# Altium integrated library Microchip Power Mgt MOSFET Driver.IntLib: 464 symbols (part 10 of 12)
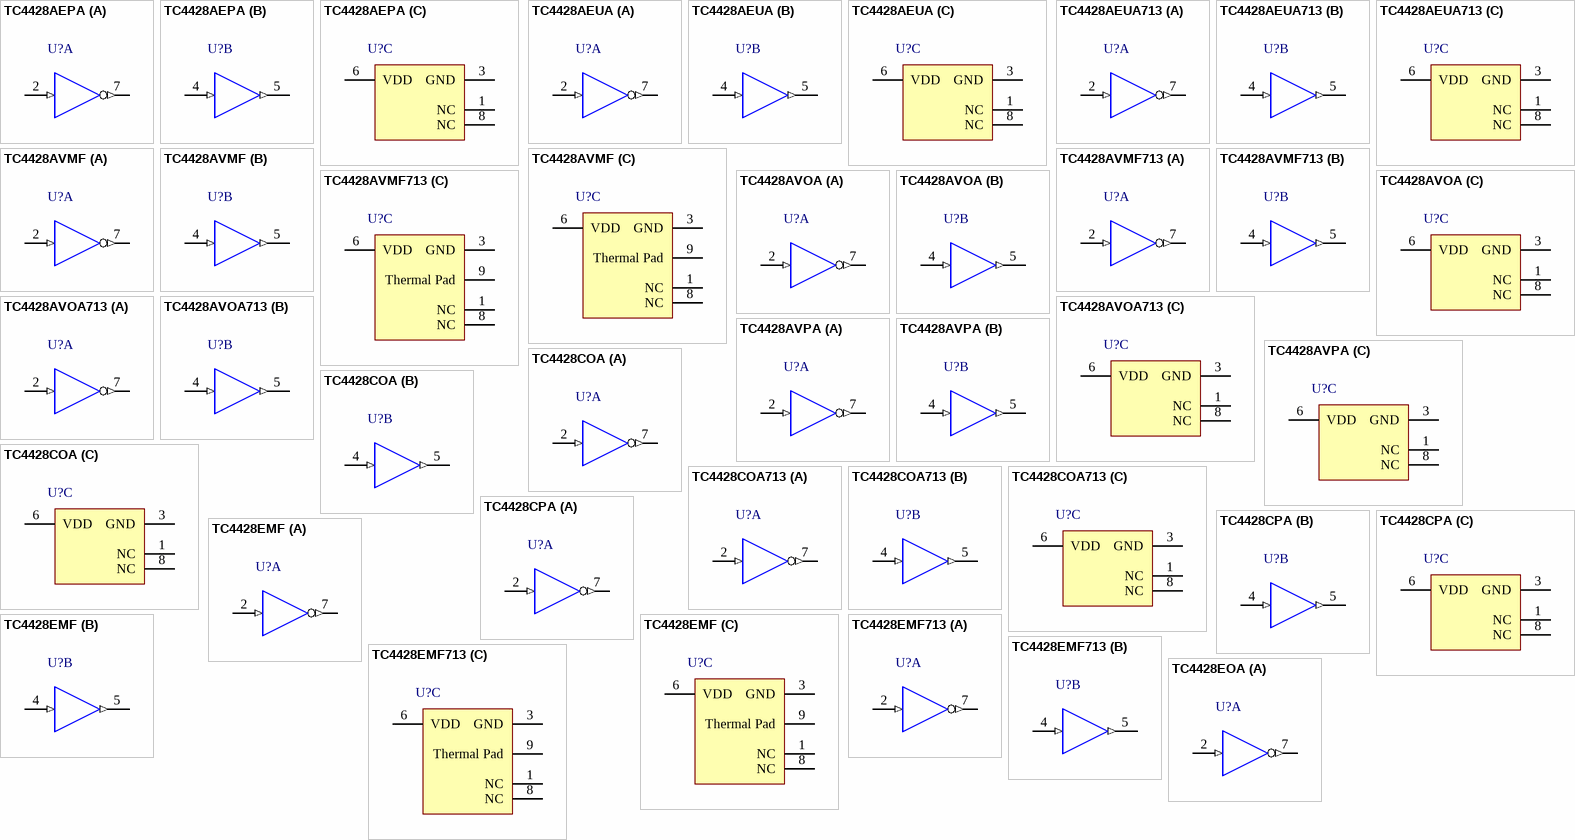
[diagram p34: symbols TC4428AEPA to TC4428EOA]

## TC4428AEUA713
designator U?
1.5A Dual High-Speed Power MOSFET Driver, Complementary, Industrial Temperature, Tape and Reel; Published: 29-Jan-2009; DatasheetVersion: revF, Jan-2006; PackageVersion: revBB, Aug-2009; PackageReference: MSOP-UA8; Publisher: Altium Limited; PackageDescription: 8-Lead Plastic Micro Small Outline Package (UA) [MSOP]; Supplier 1: Digi-Key; Supplier Part Number 1: TC4428AEUA713-ND; Code_JEDEC: MO-187-AA; ComponentLink1Description: Datasheet; ComponentLink1URL: http://ww1.microchip.com/downloads/en/DeviceDoc/21423F.pdf; ComponentLink2Description: Packaging Specification; ComponentLink2URL: http://www.microchip.com/stellent/groups/techpub_sg/documents/packagingspec/en012702.pdf; ComponentLink3Description: Microchip.com Home; ComponentLink3URL: http://www.microchip.com/
footprint MSOP-UA8_N (TSOP, 8-Leads, Body 3x3mm, Pitch 0.65mm, IPC Medium Density)
footprint MSOP-UA8_L (TSOP, 8-Leads, Body 3x3mm, Pitch 0.65mm, IPC High Density)
footprint MSOP-UA8_M (TSOP, 8-Leads, Body 3x3mm, Pitch 0.65mm, IPC Low Density)
part A pins: 2 INA (in), 7 ~{OUTA} (out)
part B pins: 4 INB (in), 5 OUTB (out)
part C pins: 1 NC, 3 GND (power), 6 VDD (power), 8 NC

## TC4428AVMF
designator U?
1.5A Dual High-Speed Power MOSFET Driver, Complementary, Extended Temperature; Published: 29-Jan-2009; DatasheetVersion: revF, Jan-2006; PackageVersion: revBB, Aug-2009; PackageReference: DFN-MF8; Publisher: Altium Limited; PackageDescription: 8-Lead Plastic Dual Flat, No Lead Package (MF) - 3x3x0.9mm Body [DFN]; Supplier 1: Digi-Key; Supplier Part Number 1: TC4428AVMF-ND; ComponentLink1Description: Datasheet; ComponentLink1URL: http://ww1.microchip.com/downloads/en/DeviceDoc/21423F.pdf; ComponentLink2Description: Packaging Specification; ComponentLink2URL: http://www.microchip.com/stellent/groups/techpub_sg/documents/packagingspec/en012702.pdf; ComponentLink3Description: Microchip.com Home; ComponentLink3URL: http://www.microchip.com/
footprint DFN-MF8 (SON, 8-Leads, Body 3x3mm, Pitch 0.65mm, Microchip Recommended)
part A pins: 2 INA (in), 7 ~{OUTA} (out)
part B pins: 4 INB (in), 5 OUTB (out)
part C pins: 1 NC, 3 GND (power), 6 VDD (power), 8 NC, 9 Thermal Pad

## TC4428AVMF713
designator U?
1.5A Dual High-Speed Power MOSFET Driver, Complementary, Extended Temperature, Tape and Reel; Published: 29-Jan-2009; DatasheetVersion: revF, Jan-2006; PackageVersion: revBB, Aug-2009; PackageReference: DFN-MF8; Publisher: Altium Limited; PackageDescription: 8-Lead Plastic Dual Flat, No Lead Package (MF) - 3x3x0.9mm Body [DFN]; Supplier 1: Digi-Key; Supplier Part Number 1: TC4428AVMF713-ND; ComponentLink1Description: Datasheet; ComponentLink1URL: http://ww1.microchip.com/downloads/en/DeviceDoc/21423F.pdf; ComponentLink2Description: Packaging Specification; ComponentLink2URL: http://www.microchip.com/stellent/groups/techpub_sg/documents/packagingspec/en012702.pdf; ComponentLink3Description: Microchip.com Home; ComponentLink3URL: http://www.microchip.com/
footprint DFN-MF8 (SON, 8-Leads, Body 3x3mm, Pitch 0.65mm, Microchip Recommended)
part A pins: 2 INA (in), 7 ~{OUTA} (out)
part B pins: 4 INB (in), 5 OUTB (out)
part C pins: 1 NC, 3 GND (power), 6 VDD (power), 8 NC, 9 Thermal Pad

## TC4428AVOA
designator U?
1.5A Dual High-Speed Power MOSFET Driver, Complementary, Extended Temperature; Published: 29-Jan-2009; DatasheetVersion: revF, Jan-2006; PackageVersion: revBB, Aug-2009; PackageReference: SOIC-OA8; Publisher: Altium Limited; PackageDescription: 8-Lead Plastic Small Outline (OA) - Narrow, 3.90mm Body [SOIC]; Supplier 1: Digi-Key; Supplier Part Number 1: TC4428AVOA-ND; Code_IPC: SOIC127P600-8; ComponentLink1Description: Datasheet; ComponentLink1URL: http://ww1.microchip.com/downloads/en/DeviceDoc/21423F.pdf; ComponentLink2Description: Packaging Specification; ComponentLink2URL: http://www.microchip.com/stellent/groups/techpub_sg/documents/packagingspec/en012702.pdf; ComponentLink3Description: Microchip.com Home; ComponentLink3URL: http://www.microchip.com/
footprint SOIC-OA8_N (SOIC, 8-Leads, Body 4.9x3.9mm, Pitch 1.27mm, IPC Medium Density)
footprint SOIC-OA8_L (SOIC, 8-Leads, Body 4.9x3.9mm, Pitch 1.27mm, IPC High Density)
footprint SOIC-OA8_M (SOIC, 8-Leads, Body 4.9x3.9mm, Pitch 1.27mm, IPC Low Density)
part A pins: 2 INA (in), 7 ~{OUTA} (out)
part B pins: 4 INB (in), 5 OUTB (out)
part C pins: 1 NC, 3 GND (power), 6 VDD (power), 8 NC

## TC4428AVOA713
designator U?
1.5A Dual High-Speed Power MOSFET Driver, Complementary, Extended Temperature, Tape and Reel; Published: 29-Jan-2009; DatasheetVersion: revF, Jan-2006; PackageVersion: revBB, Aug-2009; PackageReference: SOIC-OA8; Publisher: Altium Limited; PackageDescription: 8-Lead Plastic Small Outline (OA) - Narrow, 3.90mm Body [SOIC]; Supplier 1: Digi-Key; Supplier Part Number 1: TC4428AVOA713-ND; Code_IPC: SOIC127P600-8; ComponentLink1Description: Datasheet; ComponentLink1URL: http://ww1.microchip.com/downloads/en/DeviceDoc/21423F.pdf; ComponentLink2Description: Packaging Specification; ComponentLink2URL: http://www.microchip.com/stellent/groups/techpub_sg/documents/packagingspec/en012702.pdf; ComponentLink3Description: Microchip.com Home; ComponentLink3URL: http://www.microchip.com/
footprint SOIC-OA8_N (SOIC, 8-Leads, Body 4.9x3.9mm, Pitch 1.27mm, IPC Medium Density)
footprint SOIC-OA8_L (SOIC, 8-Leads, Body 4.9x3.9mm, Pitch 1.27mm, IPC High Density)
footprint SOIC-OA8_M (SOIC, 8-Leads, Body 4.9x3.9mm, Pitch 1.27mm, IPC Low Density)
part A pins: 2 INA (in), 7 ~{OUTA} (out)
part B pins: 4 INB (in), 5 OUTB (out)
part C pins: 1 NC, 3 GND (power), 6 VDD (power), 8 NC

## TC4428AVPA
designator U?
1.5A Dual High-Speed Power MOSFET Driver, Complementary, Extended Temperature; Published: 29-Jan-2009; DatasheetVersion: revF, Jan-2006; PackageVersion: revBB, Aug-2009; PackageReference: PDIP300-PA8; Publisher: Altium Limited; PackageDescription: 8-Lead Plastic Dual In-Line (PA) - 300 mil Body [PDIP]; Supplier 1: Digi-Key; Supplier Part Number 1: TC4428AVPA-ND; Code_JEDEC: MS-001-BA; ComponentLink1Description: Datasheet; ComponentLink1URL: http://ww1.microchip.com/downloads/en/DeviceDoc/21423F.pdf; ComponentLink2Description: Packaging Specification; ComponentLink2URL: http://www.microchip.com/stellent/groups/techpub_sg/documents/packagingspec/en012702.pdf; ComponentLink3Description: Microchip.com Home; ComponentLink3URL: http://www.microchip.com/
footprint PDIP300-PA8 (DIP, 8-Leads, Row Spacing 7.62mm, Pitch 2.54mm, Body 9.5x6.6mm)
part A pins: 2 INA (in), 7 ~{OUTA} (out)
part B pins: 4 INB (in), 5 OUTB (out)
part C pins: 1 NC, 3 GND (power), 6 VDD (power), 8 NC

## TC4428COA
designator U?
1.5A Dual High-Speed Power MOSFET Driver, Complementary, Commercial Temperature; Published: 29-Jan-2009; DatasheetVersion: revD, Jan-2006; PackageVersion: revBB, Aug-2009; PackageReference: SOIC-OA8; Publisher: Altium Limited; PackageDescription: 8-Lead Plastic Small Outline (OA) - Narrow, 3.90mm Body [SOIC]; Supplier 1: Digi-Key; Supplier Part Number 1: TC4428COA-ND; Supplier 2: Farnell; Supplier Part Number 2: 1215123; Supplier 3: Farnell; Supplier Part Number 3: 1467706; Code_IPC: SOIC127P600-8; ComponentLink1Description: Datasheet; ComponentLink1URL: http://ww1.microchip.com/downloads/en/DeviceDoc/21422D.pdf; ComponentLink2Description: Packaging Specification; ComponentLink2URL: http://www.microchip.com/stellent/groups/techpub_sg/documents/packagingspec/en012702.pdf; ComponentLink3Description: Microchip.com Home; ComponentLink3URL: http://www.microchip.com/
footprint SOIC-OA8_N (SOIC, 8-Leads, Body 4.9x3.9mm, Pitch 1.27mm, IPC Medium Density)
footprint SOIC-OA8_L (SOIC, 8-Leads, Body 4.9x3.9mm, Pitch 1.27mm, IPC High Density)
footprint SOIC-OA8_M (SOIC, 8-Leads, Body 4.9x3.9mm, Pitch 1.27mm, IPC Low Density)
part A pins: 2 INA (in), 7 ~{OUTA} (out)
part B pins: 4 INB (in), 5 OUTB (out)
part C pins: 1 NC, 3 GND (power), 6 VDD (power), 8 NC

## TC4428COA713
designator U?
1.5A Dual High-Speed Power MOSFET Driver, Complementary, Commercial Temperature, Tape and Reel; Published: 29-Jan-2009; DatasheetVersion: revD, Jan-2006; PackageVersion: revBB, Aug-2009; PackageReference: SOIC-OA8; Publisher: Altium Limited; PackageDescription: 8-Lead Plastic Small Outline (OA) - Narrow, 3.90mm Body [SOIC]; Supplier 1: Digi-Key; Supplier Part Number 1: TC4428COA713TR-ND; Code_IPC: SOIC127P600-8; ComponentLink1Description: Datasheet; ComponentLink1URL: http://ww1.microchip.com/downloads/en/DeviceDoc/21422D.pdf; ComponentLink2Description: Packaging Specification; ComponentLink2URL: http://www.microchip.com/stellent/groups/techpub_sg/documents/packagingspec/en012702.pdf; ComponentLink3Description: Microchip.com Home; ComponentLink3URL: http://www.microchip.com/
footprint SOIC-OA8_N (SOIC, 8-Leads, Body 4.9x3.9mm, Pitch 1.27mm, IPC Medium Density)
footprint SOIC-OA8_L (SOIC, 8-Leads, Body 4.9x3.9mm, Pitch 1.27mm, IPC High Density)
footprint SOIC-OA8_M (SOIC, 8-Leads, Body 4.9x3.9mm, Pitch 1.27mm, IPC Low Density)
part A pins: 2 INA (in), 7 ~{OUTA} (out)
part B pins: 4 INB (in), 5 OUTB (out)
part C pins: 1 NC, 3 GND (power), 6 VDD (power), 8 NC

## TC4428CPA
designator U?
1.5A Dual High-Speed Power MOSFET Driver, Complementary, Commercial Temperature; Published: 29-Jan-2009; DatasheetVersion: revD, Jan-2006; PackageVersion: revBB, Aug-2009; PackageReference: PDIP300-PA8; Publisher: Altium Limited; PackageDescription: 8-Lead Plastic Dual In-Line (PA) - 300 mil Body [PDIP]; Supplier 1: Digi-Key; Supplier Part Number 1: TC4428CPA-ND; Code_JEDEC: MS-001-BA; ComponentLink1Description: Datasheet; ComponentLink1URL: http://ww1.microchip.com/downloads/en/DeviceDoc/21422D.pdf; ComponentLink2Description: Packaging Specification; ComponentLink2URL: http://www.microchip.com/stellent/groups/techpub_sg/documents/packagingspec/en012702.pdf; ComponentLink3Description: Microchip.com Home; ComponentLink3URL: http://www.microchip.com/
footprint PDIP300-PA8 (DIP, 8-Leads, Row Spacing 7.62mm, Pitch 2.54mm, Body 9.5x6.6mm)
part A pins: 2 INA (in), 7 ~{OUTA} (out)
part B pins: 4 INB (in), 5 OUTB (out)
part C pins: 1 NC, 3 GND (power), 6 VDD (power), 8 NC

## TC4428EMF
designator U?
1.5A Dual High-Speed Power MOSFET Driver, Complementary, Industrial Temperature; Published: 29-Jan-2009; DatasheetVersion: revD, Jan-2006; PackageVersion: revBB, Aug-2009; PackageReference: DFN-MF8; Publisher: Altium Limited; PackageDescription: 8-Lead Plastic Dual Flat, No Lead Package (MF) - 3x3x0.9mm Body [DFN]; Supplier 1: Digi-Key; Supplier Part Number 1: TC4428EMF-ND; ComponentLink1Description: Datasheet; ComponentLink1URL: http://ww1.microchip.com/downloads/en/DeviceDoc/21422D.pdf; ComponentLink2Description: Packaging Specification; ComponentLink2URL: http://www.microchip.com/stellent/groups/techpub_sg/documents/packagingspec/en012702.pdf; ComponentLink3Description: Microchip.com Home; ComponentLink3URL: http://www.microchip.com/
footprint DFN-MF8 (SON, 8-Leads, Body 3x3mm, Pitch 0.65mm, Microchip Recommended)
part A pins: 2 INA (in), 7 ~{OUTA} (out)
part B pins: 4 INB (in), 5 OUTB (out)
part C pins: 1 NC, 3 GND (power), 6 VDD (power), 8 NC, 9 Thermal Pad

## TC4428EMF713
designator U?
1.5A Dual High-Speed Power MOSFET Driver, Complementary, Industrial Temperature, Tape and Reel; Published: 29-Jan-2009; DatasheetVersion: revD, Jan-2006; PackageVersion: revBB, Aug-2009; PackageReference: DFN-MF8; Publisher: Altium Limited; PackageDescription: 8-Lead Plastic Dual Flat, No Lead Package (MF) - 3x3x0.9mm Body [DFN]; Supplier 1: Digi-Key; Supplier Part Number 1: TC4428EMF713-ND; ComponentLink1Description: Datasheet; ComponentLink1URL: http://ww1.microchip.com/downloads/en/DeviceDoc/21422D.pdf; ComponentLink2Description: Packaging Specification; ComponentLink2URL: http://www.microchip.com/stellent/groups/techpub_sg/documents/packagingspec/en012702.pdf; ComponentLink3Description: Microchip.com Home; ComponentLink3URL: http://www.microchip.com/
footprint DFN-MF8 (SON, 8-Leads, Body 3x3mm, Pitch 0.65mm, Microchip Recommended)
part A pins: 2 INA (in), 7 ~{OUTA} (out)
part B pins: 4 INB (in), 5 OUTB (out)
part C pins: 1 NC, 3 GND (power), 6 VDD (power), 8 NC, 9 Thermal Pad

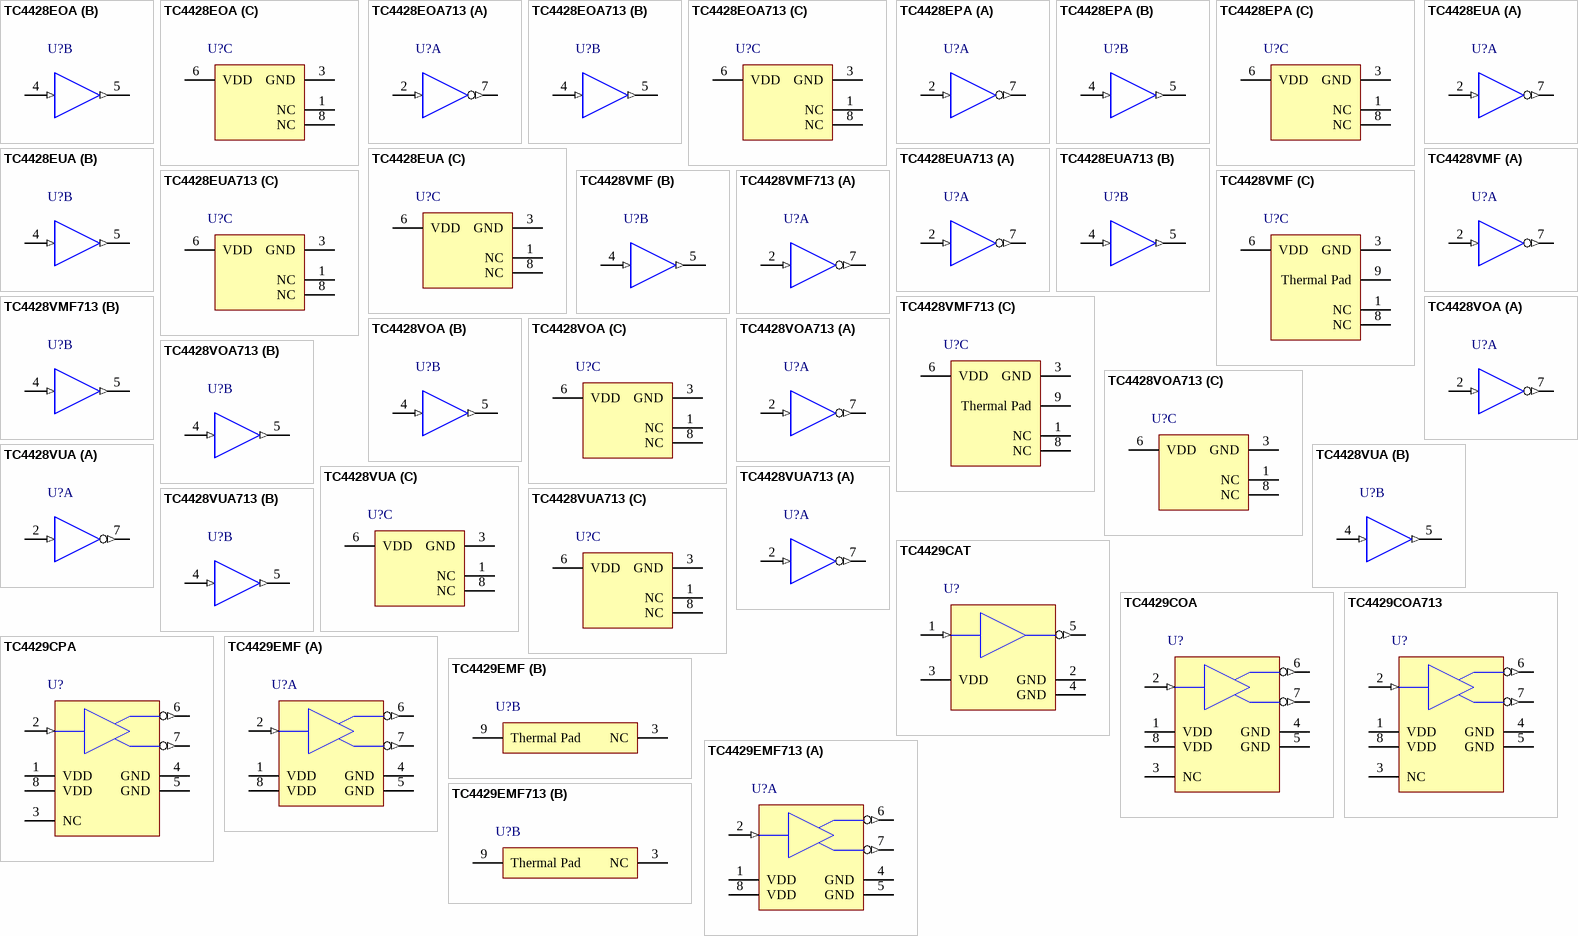
[diagram p21: symbols TC4428EOA to TC4429EMF713]

## TC4428EOA
designator U?
1.5A Dual High-Speed Power MOSFET Driver, Complementary, Industrial Temperature; Published: 29-Jan-2009; DatasheetVersion: revD, Jan-2006; PackageVersion: revBB, Aug-2009; PackageReference: SOIC-OA8; Publisher: Altium Limited; PackageDescription: 8-Lead Plastic Small Outline (OA) - Narrow, 3.90mm Body [SOIC]; Supplier 1: Digi-Key; Supplier Part Number 1: TC4428EOA-ND; Supplier 2: Farnell; Supplier Part Number 2: 1196805; Code_IPC: SOIC127P600-8; ComponentLink1Description: Datasheet; ComponentLink1URL: http://ww1.microchip.com/downloads/en/DeviceDoc/21422D.pdf; ComponentLink2Description: Packaging Specification; ComponentLink2URL: http://www.microchip.com/stellent/groups/techpub_sg/documents/packagingspec/en012702.pdf; ComponentLink3Description: Microchip.com Home; ComponentLink3URL: http://www.microchip.com/
footprint SOIC-OA8_N (SOIC, 8-Leads, Body 4.9x3.9mm, Pitch 1.27mm, IPC Medium Density)
footprint SOIC-OA8_L (SOIC, 8-Leads, Body 4.9x3.9mm, Pitch 1.27mm, IPC High Density)
footprint SOIC-OA8_M (SOIC, 8-Leads, Body 4.9x3.9mm, Pitch 1.27mm, IPC Low Density)
part A pins: 2 INA (in), 7 ~{OUTA} (out)
part B pins: 4 INB (in), 5 OUTB (out)
part C pins: 1 NC, 3 GND (power), 6 VDD (power), 8 NC

## TC4428EOA713
designator U?
1.5A Dual High-Speed Power MOSFET Driver, Complementary, Industrial Temperature, Tape and Reel; Published: 29-Jan-2009; DatasheetVersion: revD, Jan-2006; PackageVersion: revBB, Aug-2009; PackageReference: SOIC-OA8; Publisher: Altium Limited; PackageDescription: 8-Lead Plastic Small Outline (OA) - Narrow, 3.90mm Body [SOIC]; Supplier 1: Digi-Key; Supplier Part Number 1: TC4428EOA713-ND; Code_IPC: SOIC127P600-8; ComponentLink1Description: Datasheet; ComponentLink1URL: http://ww1.microchip.com/downloads/en/DeviceDoc/21422D.pdf; ComponentLink2Description: Packaging Specification; ComponentLink2URL: http://www.microchip.com/stellent/groups/techpub_sg/documents/packagingspec/en012702.pdf; ComponentLink3Description: Microchip.com Home; ComponentLink3URL: http://www.microchip.com/
footprint SOIC-OA8_N (SOIC, 8-Leads, Body 4.9x3.9mm, Pitch 1.27mm, IPC Medium Density)
footprint SOIC-OA8_L (SOIC, 8-Leads, Body 4.9x3.9mm, Pitch 1.27mm, IPC High Density)
footprint SOIC-OA8_M (SOIC, 8-Leads, Body 4.9x3.9mm, Pitch 1.27mm, IPC Low Density)
part A pins: 2 INA (in), 7 ~{OUTA} (out)
part B pins: 4 INB (in), 5 OUTB (out)
part C pins: 1 NC, 3 GND (power), 6 VDD (power), 8 NC

## TC4428EPA
designator U?
1.5A Dual High-Speed Power MOSFET Driver, Complementary, Industrial Temperature; Published: 29-Jan-2009; DatasheetVersion: revD, Jan-2006; PackageVersion: revBB, Aug-2009; PackageReference: PDIP300-PA8; Publisher: Altium Limited; PackageDescription: 8-Lead Plastic Dual In-Line (PA) - 300 mil Body [PDIP]; Supplier 1: Digi-Key; Supplier Part Number 1: TC4428EPA-ND; Code_JEDEC: MS-001-BA; ComponentLink1Description: Datasheet; ComponentLink1URL: http://ww1.microchip.com/downloads/en/DeviceDoc/21422D.pdf; ComponentLink2Description: Packaging Specification; ComponentLink2URL: http://www.microchip.com/stellent/groups/techpub_sg/documents/packagingspec/en012702.pdf; ComponentLink3Description: Microchip.com Home; ComponentLink3URL: http://www.microchip.com/
footprint PDIP300-PA8 (DIP, 8-Leads, Row Spacing 7.62mm, Pitch 2.54mm, Body 9.5x6.6mm)
part A pins: 2 INA (in), 7 ~{OUTA} (out)
part B pins: 4 INB (in), 5 OUTB (out)
part C pins: 1 NC, 3 GND (power), 6 VDD (power), 8 NC

## TC4428EUA
designator U?
1.5A Dual High-Speed Power MOSFET Driver, Complementary, Industrial Temperature; Published: 29-Jan-2009; DatasheetVersion: revD, Jan-2006; PackageVersion: revBB, Aug-2009; PackageReference: MSOP-UA8; Publisher: Altium Limited; PackageDescription: 8-Lead Plastic Micro Small Outline Package (UA) [MSOP]; Supplier 1: Digi-Key; Supplier Part Number 1: TC4428EUA-ND; Code_JEDEC: MO-187-AA; ComponentLink1Description: Datasheet; ComponentLink1URL: http://ww1.microchip.com/downloads/en/DeviceDoc/21422D.pdf; ComponentLink2Description: Packaging Specification; ComponentLink2URL: http://www.microchip.com/stellent/groups/techpub_sg/documents/packagingspec/en012702.pdf; ComponentLink3Description: Microchip.com Home; ComponentLink3URL: http://www.microchip.com/
footprint MSOP-UA8_N (TSOP, 8-Leads, Body 3x3mm, Pitch 0.65mm, IPC Medium Density)
footprint MSOP-UA8_L (TSOP, 8-Leads, Body 3x3mm, Pitch 0.65mm, IPC High Density)
footprint MSOP-UA8_M (TSOP, 8-Leads, Body 3x3mm, Pitch 0.65mm, IPC Low Density)
part A pins: 2 INA (in), 7 ~{OUTA} (out)
part B pins: 4 INB (in), 5 OUTB (out)
part C pins: 1 NC, 3 GND (power), 6 VDD (power), 8 NC

## TC4428EUA713
designator U?
1.5A Dual High-Speed Power MOSFET Driver, Complementary, Industrial Temperature, Tape and Reel; Published: 29-Jan-2009; DatasheetVersion: revD, Jan-2006; PackageVersion: revBB, Aug-2009; PackageReference: MSOP-UA8; Publisher: Altium Limited; PackageDescription: 8-Lead Plastic Micro Small Outline Package (UA) [MSOP]; Supplier 1: Digi-Key; Supplier Part Number 1: TC4428EUA713-ND; Code_JEDEC: MO-187-AA; ComponentLink1Description: Datasheet; ComponentLink1URL: http://ww1.microchip.com/downloads/en/DeviceDoc/21422D.pdf; ComponentLink2Description: Packaging Specification; ComponentLink2URL: http://www.microchip.com/stellent/groups/techpub_sg/documents/packagingspec/en012702.pdf; ComponentLink3Description: Microchip.com Home; ComponentLink3URL: http://www.microchip.com/
footprint MSOP-UA8_N (TSOP, 8-Leads, Body 3x3mm, Pitch 0.65mm, IPC Medium Density)
footprint MSOP-UA8_L (TSOP, 8-Leads, Body 3x3mm, Pitch 0.65mm, IPC High Density)
footprint MSOP-UA8_M (TSOP, 8-Leads, Body 3x3mm, Pitch 0.65mm, IPC Low Density)
part A pins: 2 INA (in), 7 ~{OUTA} (out)
part B pins: 4 INB (in), 5 OUTB (out)
part C pins: 1 NC, 3 GND (power), 6 VDD (power), 8 NC

## TC4428VMF
designator U?
1.5A Dual High-Speed Power MOSFET Driver, Complementary, Extended Temperature; Published: 29-Jan-2009; DatasheetVersion: revD, Jan-2006; PackageVersion: revBB, Aug-2009; PackageReference: DFN-MF8; Publisher: Altium Limited; PackageDescription: 8-Lead Plastic Dual Flat, No Lead Package (MF) - 3x3x0.9mm Body [DFN]; Supplier 1: Digi-Key; Supplier Part Number 1: TC4428VMF-ND; ComponentLink1Description: Datasheet; ComponentLink1URL: http://ww1.microchip.com/downloads/en/DeviceDoc/21422D.pdf; ComponentLink2Description: Packaging Specification; ComponentLink2URL: http://www.microchip.com/stellent/groups/techpub_sg/documents/packagingspec/en012702.pdf; ComponentLink3Description: Microchip.com Home; ComponentLink3URL: http://www.microchip.com/
footprint DFN-MF8 (SON, 8-Leads, Body 3x3mm, Pitch 0.65mm, Microchip Recommended)
part A pins: 2 INA (in), 7 ~{OUTA} (out)
part B pins: 4 INB (in), 5 OUTB (out)
part C pins: 1 NC, 3 GND (power), 6 VDD (power), 8 NC, 9 Thermal Pad

## TC4428VMF713
designator U?
1.5A Dual High-Speed Power MOSFET Driver, Complementary, Extended Temperature, Tape and Reel; Published: 29-Jan-2009; DatasheetVersion: revD, Jan-2006; PackageVersion: revBB, Aug-2009; PackageReference: DFN-MF8; Publisher: Altium Limited; PackageDescription: 8-Lead Plastic Dual Flat, No Lead Package (MF) - 3x3x0.9mm Body [DFN]; Supplier 1: Digi-Key; Supplier Part Number 1: TC4428VMF713-ND; ComponentLink1Description: Datasheet; ComponentLink1URL: http://ww1.microchip.com/downloads/en/DeviceDoc/21422D.pdf; ComponentLink2Description: Packaging Specification; ComponentLink2URL: http://www.microchip.com/stellent/groups/techpub_sg/documents/packagingspec/en012702.pdf; ComponentLink3Description: Microchip.com Home; ComponentLink3URL: http://www.microchip.com/
footprint DFN-MF8 (SON, 8-Leads, Body 3x3mm, Pitch 0.65mm, Microchip Recommended)
part A pins: 2 INA (in), 7 ~{OUTA} (out)
part B pins: 4 INB (in), 5 OUTB (out)
part C pins: 1 NC, 3 GND (power), 6 VDD (power), 8 NC, 9 Thermal Pad

## TC4428VOA
designator U?
1.5A Dual High-Speed Power MOSFET Driver, Complementary, Extended Temperature; Published: 29-Jan-2009; DatasheetVersion: revD, Jan-2006; PackageVersion: revBB, Aug-2009; PackageReference: SOIC-OA8; Publisher: Altium Limited; PackageDescription: 8-Lead Plastic Small Outline (OA) - Narrow, 3.90mm Body [SOIC]; Supplier 1: Digi-Key; Supplier Part Number 1: TC4428VOA-ND; Code_IPC: SOIC127P600-8; ComponentLink1Description: Datasheet; ComponentLink1URL: http://ww1.microchip.com/downloads/en/DeviceDoc/21422D.pdf; ComponentLink2Description: Packaging Specification; ComponentLink2URL: http://www.microchip.com/stellent/groups/techpub_sg/documents/packagingspec/en012702.pdf; ComponentLink3Description: Microchip.com Home; ComponentLink3URL: http://www.microchip.com/
footprint SOIC-OA8_N (SOIC, 8-Leads, Body 4.9x3.9mm, Pitch 1.27mm, IPC Medium Density)
footprint SOIC-OA8_L (SOIC, 8-Leads, Body 4.9x3.9mm, Pitch 1.27mm, IPC High Density)
footprint SOIC-OA8_M (SOIC, 8-Leads, Body 4.9x3.9mm, Pitch 1.27mm, IPC Low Density)
part A pins: 2 INA (in), 7 ~{OUTA} (out)
part B pins: 4 INB (in), 5 OUTB (out)
part C pins: 1 NC, 3 GND (power), 6 VDD (power), 8 NC

## TC4428VOA713
designator U?
1.5A Dual High-Speed Power MOSFET Driver, Complementary, Extended Temperature, Tape and Reel; Published: 29-Jan-2009; DatasheetVersion: revD, Jan-2006; PackageVersion: revBB, Aug-2009; PackageReference: SOIC-OA8; Publisher: Altium Limited; PackageDescription: 8-Lead Plastic Small Outline (OA) - Narrow, 3.90mm Body [SOIC]; Supplier 1: Digi-Key; Supplier Part Number 1: TC4428VOA713-ND; Code_IPC: SOIC127P600-8; ComponentLink1Description: Datasheet; ComponentLink1URL: http://ww1.microchip.com/downloads/en/DeviceDoc/21422D.pdf; ComponentLink2Description: Packaging Specification; ComponentLink2URL: http://www.microchip.com/stellent/groups/techpub_sg/documents/packagingspec/en012702.pdf; ComponentLink3Description: Microchip.com Home; ComponentLink3URL: http://www.microchip.com/
footprint SOIC-OA8_N (SOIC, 8-Leads, Body 4.9x3.9mm, Pitch 1.27mm, IPC Medium Density)
footprint SOIC-OA8_L (SOIC, 8-Leads, Body 4.9x3.9mm, Pitch 1.27mm, IPC High Density)
footprint SOIC-OA8_M (SOIC, 8-Leads, Body 4.9x3.9mm, Pitch 1.27mm, IPC Low Density)
part A pins: 2 INA (in), 7 ~{OUTA} (out)
part B pins: 4 INB (in), 5 OUTB (out)
part C pins: 1 NC, 3 GND (power), 6 VDD (power), 8 NC

## TC4428VUA
designator U?
1.5A Dual High-Speed Power MOSFET Driver, Complementary, Extended Temperature; Published: 29-Jan-2009; DatasheetVersion: revD, Jan-2006; PackageVersion: revBB, Aug-2009; PackageReference: MSOP-UA8; Publisher: Altium Limited; PackageDescription: 8-Lead Plastic Micro Small Outline Package (UA) [MSOP]; Supplier 1: Digi-Key; Supplier Part Number 1: TC4428VUA-ND; Code_JEDEC: MO-187-AA; ComponentLink1Description: Datasheet; ComponentLink1URL: http://ww1.microchip.com/downloads/en/DeviceDoc/21422D.pdf; ComponentLink2Description: Packaging Specification; ComponentLink2URL: http://www.microchip.com/stellent/groups/techpub_sg/documents/packagingspec/en012702.pdf; ComponentLink3Description: Microchip.com Home; ComponentLink3URL: http://www.microchip.com/
footprint MSOP-UA8_N (TSOP, 8-Leads, Body 3x3mm, Pitch 0.65mm, IPC Medium Density)
footprint MSOP-UA8_L (TSOP, 8-Leads, Body 3x3mm, Pitch 0.65mm, IPC High Density)
footprint MSOP-UA8_M (TSOP, 8-Leads, Body 3x3mm, Pitch 0.65mm, IPC Low Density)
part A pins: 2 INA (in), 7 ~{OUTA} (out)
part B pins: 4 INB (in), 5 OUTB (out)
part C pins: 1 NC, 3 GND (power), 6 VDD (power), 8 NC

## TC4428VUA713
designator U?
1.5A Dual High-Speed Power MOSFET Driver, Complementary, Extended Temperature, Tape and Reel; Published: 29-Jan-2009; DatasheetVersion: revD, Jan-2006; PackageVersion: revBB, Aug-2009; PackageReference: MSOP-UA8; Publisher: Altium Limited; PackageDescription: 8-Lead Plastic Micro Small Outline Package (UA) [MSOP]; Supplier 1: Digi-Key; Supplier Part Number 1: TC4428VUA713-ND; Code_JEDEC: MO-187-AA; ComponentLink1Description: Datasheet; ComponentLink1URL: http://ww1.microchip.com/downloads/en/DeviceDoc/21422D.pdf; ComponentLink2Description: Packaging Specification; ComponentLink2URL: http://www.microchip.com/stellent/groups/techpub_sg/documents/packagingspec/en012702.pdf; ComponentLink3Description: Microchip.com Home; ComponentLink3URL: http://www.microchip.com/
footprint MSOP-UA8_N (TSOP, 8-Leads, Body 3x3mm, Pitch 0.65mm, IPC Medium Density)
footprint MSOP-UA8_L (TSOP, 8-Leads, Body 3x3mm, Pitch 0.65mm, IPC High Density)
footprint MSOP-UA8_M (TSOP, 8-Leads, Body 3x3mm, Pitch 0.65mm, IPC Low Density)
part A pins: 2 INA (in), 7 ~{OUTA} (out)
part B pins: 4 INB (in), 5 OUTB (out)
part C pins: 1 NC, 3 GND (power), 6 VDD (power), 8 NC

## TC4429CAT
designator U?
6A High-Speed MOSFET Driver, Inverting, Commercial Temperature; Published: 29-Jan-2009; LatestRevisionDate: 01-Mar-2010; LatestRevisionNote: Sch Layout changed.; DatasheetVersion: revC, Aug-2004; PackageVersion: revBB, Aug-2009; PackageReference: TO-220-AT5; Publisher: Altium Limited; PackageDescription: 5-Lead Plastic Transistor Outline (AT) [TO-220]; Supplier 1: Digi-Key; Supplier Part Number 1: TC4429CAT-ND; Supplier 2: Farnell; Supplier Part Number 2: 1703279; ComponentLink1Description: Datasheet; ComponentLink1URL: http://ww1.microchip.com/downloads/en/DeviceDoc/21419c.pdf; ComponentLink2Description: Packaging Specification; ComponentLink2URL: http://www.microchip.com/stellent/groups/techpub_sg/documents/packagingspec/en012702.pdf; ComponentLink3Description: Microchip.com Home; ComponentLink3URL: http://www.microchip.com/
footprint TO-220-AT5 (TO, Thru-Hole, Vertical, Heatsink Mounted; 5 In-Line Leads; Pitch 1.70 mm)
simulation model TC4429_I2D_B (SUBCKT)
pins: 1 IN (in), 2 GND (power), 3 VDD (power), 4 GND (power), 5 ~{OUT} (out)

## TC4429COA
designator U?
6A High-Speed MOSFET Driver, Inverting, Commercial Temperature; Published: 29-Jan-2009; LatestRevisionDate: 01-Mar-2010; LatestRevisionNote: Sch Layout changed.; DatasheetVersion: revC, Aug-2004; PackageVersion: revBB, Aug-2009; PackageReference: SOIC-OA8; Publisher: Altium Limited; PackageDescription: 8-Lead Plastic Small Outline (OA) - Narrow, 3.90mm Body [SOIC]; Supplier 1: Digi-Key; Supplier Part Number 1: TC4429COA-ND; Supplier 2: Farnell; Supplier Part Number 2: 1292287; Code_IPC: SOIC127P600-8; ComponentLink1Description: Datasheet; ComponentLink1URL: http://ww1.microchip.com/downloads/en/DeviceDoc/21419c.pdf; ComponentLink2Description: Packaging Specification; ComponentLink2URL: http://www.microchip.com/stellent/groups/techpub_sg/documents/packagingspec/en012702.pdf; ComponentLink3Description: Microchip.com Home; ComponentLink3URL: http://www.microchip.com/
footprint SOIC-OA8_N (SOIC, 8-Leads, Body 4.9x3.9mm, Pitch 1.27mm, IPC Medium Density)
footprint SOIC-OA8_L (SOIC, 8-Leads, Body 4.9x3.9mm, Pitch 1.27mm, IPC High Density)
footprint SOIC-OA8_M (SOIC, 8-Leads, Body 4.9x3.9mm, Pitch 1.27mm, IPC Low Density)
simulation model TC4429_I2D_B (SUBCKT)
pins: 1 VDD (power), 2 IN (in), 3 NC, 4 GND (power), 5 GND (power), 6 ~{OUT} (out), 7 ~{OUT} (out), 8 VDD (power)

## TC4429COA713
designator U?
6A High-Speed MOSFET Driver, Inverting, Commercial Temperature, Tape and Reel; Published: 29-Jan-2009; LatestRevisionDate: 01-Mar-2010; LatestRevisionNote: Sch Layout changed.; DatasheetVersion: revC, Aug-2004; PackageVersion: revBB, Aug-2009; PackageReference: SOIC-OA8; Publisher: Altium Limited; PackageDescription: 8-Lead Plastic Small Outline (OA) - Narrow, 3.90mm Body [SOIC]; Supplier 1: Digi-Key; Supplier Part Number 1: TC4429COA713-ND; Code_IPC: SOIC127P600-8; ComponentLink1Description: Datasheet; ComponentLink1URL: http://ww1.microchip.com/downloads/en/DeviceDoc/21419c.pdf; ComponentLink2Description: Packaging Specification; ComponentLink2URL: http://www.microchip.com/stellent/groups/techpub_sg/documents/packagingspec/en012702.pdf; ComponentLink3Description: Microchip.com Home; ComponentLink3URL: http://www.microchip.com/
footprint SOIC-OA8_N (SOIC, 8-Leads, Body 4.9x3.9mm, Pitch 1.27mm, IPC Medium Density)
footprint SOIC-OA8_L (SOIC, 8-Leads, Body 4.9x3.9mm, Pitch 1.27mm, IPC High Density)
footprint SOIC-OA8_M (SOIC, 8-Leads, Body 4.9x3.9mm, Pitch 1.27mm, IPC Low Density)
simulation model TC4429_I2D_B (SUBCKT)
pins: 1 VDD (power), 2 IN (in), 3 NC, 4 GND (power), 5 GND (power), 6 ~{OUT} (out), 7 ~{OUT} (out), 8 VDD (power)

## TC4429CPA
designator U?
6A High-Speed MOSFET Driver, Inverting, Commercial Temperature; Published: 29-Jan-2009; LatestRevisionDate: 01-Mar-2010; LatestRevisionNote: Sch Layout changed.; DatasheetVersion: revC, Aug-2004; PackageVersion: revBB, Aug-2009; PackageReference: PDIP300-PA8; Publisher: Altium Limited; PackageDescription: 8-Lead Plastic Dual In-Line (PA) - 300 mil Body [PDIP]; Supplier 1: Digi-Key; Supplier Part Number 1: TC4429CPA-ND; Supplier 2: Farnell; Supplier Part Number 2: 1196787; Code_JEDEC: MS-001-BA; ComponentLink1Description: Datasheet; ComponentLink1URL: http://ww1.microchip.com/downloads/en/DeviceDoc/21419c.pdf; ComponentLink2Description: Packaging Specification; ComponentLink2URL: http://www.microchip.com/stellent/groups/techpub_sg/documents/packagingspec/en012702.pdf; ComponentLink3Description: Microchip.com Home; ComponentLink3URL: http://www.microchip.com/
footprint PDIP300-PA8 (DIP, 8-Leads, Row Spacing 7.62mm, Pitch 2.54mm, Body 9.5x6.6mm)
simulation model TC4429_I2D_B (SUBCKT)
pins: 1 VDD (power), 2 IN (in), 3 NC, 4 GND (power), 5 GND (power), 6 ~{OUT} (out), 7 ~{OUT} (out), 8 VDD (power)

## TC4429EMF
designator U?
6A High-Speed MOSFET Driver, Inverting, Industrial Temperature; Published: 29-Jan-2009; LatestRevisionDate: 01-Mar-2010; LatestRevisionNote: Sch Layout changed.; DatasheetVersion: revC, Aug-2004; PackageVersion: revBB, Aug-2009; PackageReference: DFN-MF8; Publisher: Altium Limited; PackageDescription: 8-Lead Plastic Dual Flat, No Lead Package (MF) - 3x3x0.9mm Body [DFN]; Supplier 1: Digi-Key; Supplier Part Number 1: TC4429EMF-ND; ComponentLink1Description: Datasheet; ComponentLink1URL: http://ww1.microchip.com/downloads/en/DeviceDoc/21419c.pdf; ComponentLink2Description: Packaging Specification; ComponentLink2URL: http://www.microchip.com/stellent/groups/techpub_sg/documents/packagingspec/en012702.pdf; ComponentLink3Description: Microchip.com Home; ComponentLink3URL: http://www.microchip.com/
footprint DFN-MF8 (SON, 8-Leads, Body 3x3mm, Pitch 0.65mm, Microchip Recommended)
simulation model TC4429_I2D_B (SUBCKT)
part A pins: 1 VDD (power), 2 IN (in), 4 GND (power), 5 GND (power), 6 ~{OUT} (out), 7 ~{OUT} (out), 8 VDD (power)
part B pins: 3 NC, 9 Thermal Pad

## TC4429EMF713
designator U?
6A High-Speed MOSFET Driver, Inverting, Industrial Temperature, Tape and Reel; Published: 29-Jan-2009; LatestRevisionDate: 01-Mar-2010; LatestRevisionNote: Sch Layout changed.; DatasheetVersion: revC, Aug-2004; PackageVersion: revBB, Aug-2009; PackageReference: DFN-MF8; Publisher: Altium Limited; PackageDescription: 8-Lead Plastic Dual Flat, No Lead Package (MF) - 3x3x0.9mm Body [DFN]; Supplier 1: Digi-Key; Supplier Part Number 1: TC4429EMF713-ND; ComponentLink1Description: Datasheet; ComponentLink1URL: http://ww1.microchip.com/downloads/en/DeviceDoc/21419c.pdf; ComponentLink2Description: Packaging Specification; ComponentLink2URL: http://www.microchip.com/stellent/groups/techpub_sg/documents/packagingspec/en012702.pdf; ComponentLink3Description: Microchip.com Home; ComponentLink3URL: http://www.microchip.com/
footprint DFN-MF8 (SON, 8-Leads, Body 3x3mm, Pitch 0.65mm, Microchip Recommended)
simulation model TC4429_I2D_B (SUBCKT)
part A pins: 1 VDD (power), 2 IN (in), 4 GND (power), 5 GND (power), 6 ~{OUT} (out), 7 ~{OUT} (out), 8 VDD (power)
part B pins: 3 NC, 9 Thermal Pad

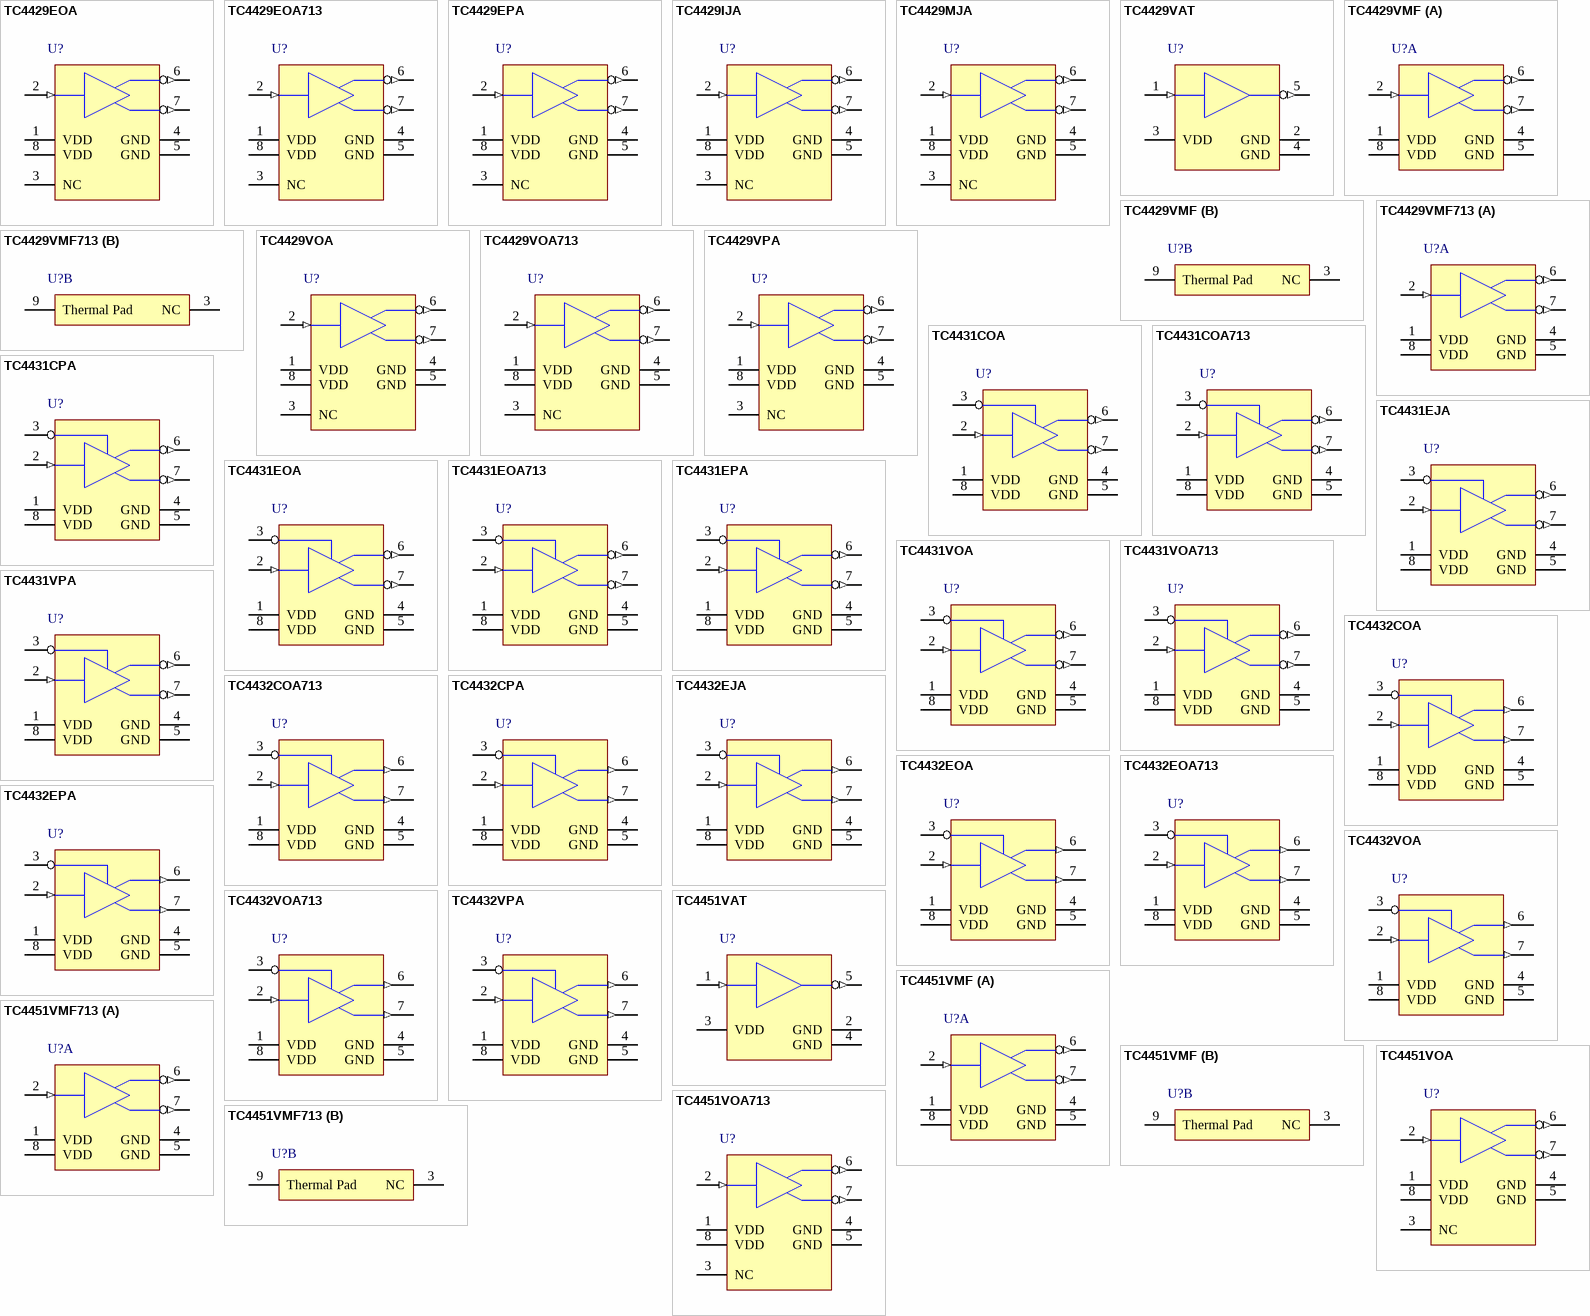
[diagram p22: symbols TC4429EOA to TC4451VOA713]

## TC4429EOA
designator U?
6A High-Speed MOSFET Driver, Inverting, Industrial Temperature; Published: 29-Jan-2009; LatestRevisionDate: 01-Mar-2010; LatestRevisionNote: Sch Layout changed.; DatasheetVersion: revC, Aug-2004; PackageVersion: revBB, Aug-2009; PackageReference: SOIC-OA8; Publisher: Altium Limited; PackageDescription: 8-Lead Plastic Small Outline (OA) - Narrow, 3.90mm Body [SOIC]; Supplier 1: Digi-Key; Supplier Part Number 1: TC4429EOA-ND; Supplier 2: Farnell; Supplier Part Number 2: 1467707; Supplier 3: Farnell; Supplier Part Number 3: 1163933; Code_IPC: SOIC127P600-8; ComponentLink1Description: Datasheet; ComponentLink1URL: http://ww1.microchip.com/downloads/en/DeviceDoc/21419c.pdf; ComponentLink2Description: Packaging Specification; ComponentLink2URL: http://www.microchip.com/stellent/groups/techpub_sg/documents/packagingspec/en012702.pdf; ComponentLink3Description: Microchip.com Home; ComponentLink3URL: http://www.microchip.com/
footprint SOIC-OA8_N (SOIC, 8-Leads, Body 4.9x3.9mm, Pitch 1.27mm, IPC Medium Density)
footprint SOIC-OA8_L (SOIC, 8-Leads, Body 4.9x3.9mm, Pitch 1.27mm, IPC High Density)
footprint SOIC-OA8_M (SOIC, 8-Leads, Body 4.9x3.9mm, Pitch 1.27mm, IPC Low Density)
simulation model TC4429_I2D_B (SUBCKT)
pins: 1 VDD (power), 2 IN (in), 3 NC, 4 GND (power), 5 GND (power), 6 ~{OUT} (out), 7 ~{OUT} (out), 8 VDD (power)

## TC4429EOA713
designator U?
6A High-Speed MOSFET Driver, Inverting, Industrial Temperature, Tape and Reel; Published: 29-Jan-2009; LatestRevisionDate: 01-Mar-2010; LatestRevisionNote: Sch Layout changed.; DatasheetVersion: revC, Aug-2004; PackageVersion: revBB, Aug-2009; PackageReference: SOIC-OA8; Publisher: Altium Limited; PackageDescription: 8-Lead Plastic Small Outline (OA) - Narrow, 3.90mm Body [SOIC]; Supplier 1: Digi-Key; Supplier Part Number 1: TC4429EOA713-ND; Code_IPC: SOIC127P600-8; ComponentLink1Description: Datasheet; ComponentLink1URL: http://ww1.microchip.com/downloads/en/DeviceDoc/21419c.pdf; ComponentLink2Description: Packaging Specification; ComponentLink2URL: http://www.microchip.com/stellent/groups/techpub_sg/documents/packagingspec/en012702.pdf; ComponentLink3Description: Microchip.com Home; ComponentLink3URL: http://www.microchip.com/
footprint SOIC-OA8_N (SOIC, 8-Leads, Body 4.9x3.9mm, Pitch 1.27mm, IPC Medium Density)
footprint SOIC-OA8_L (SOIC, 8-Leads, Body 4.9x3.9mm, Pitch 1.27mm, IPC High Density)
footprint SOIC-OA8_M (SOIC, 8-Leads, Body 4.9x3.9mm, Pitch 1.27mm, IPC Low Density)
simulation model TC4429_I2D_B (SUBCKT)
pins: 1 VDD (power), 2 IN (in), 3 NC, 4 GND (power), 5 GND (power), 6 ~{OUT} (out), 7 ~{OUT} (out), 8 VDD (power)

## TC4429EPA
designator U?
6A High-Speed MOSFET Driver, Inverting, Industrial Temperature; Published: 29-Jan-2009; LatestRevisionDate: 01-Mar-2010; LatestRevisionNote: Sch Layout changed.; DatasheetVersion: revC, Aug-2004; PackageVersion: revBB, Aug-2009; PackageReference: PDIP300-PA8; Publisher: Altium Limited; PackageDescription: 8-Lead Plastic Dual In-Line (PA) - 300 mil Body [PDIP]; Supplier 1: Digi-Key; Supplier Part Number 1: TC4429EPA-ND; Code_JEDEC: MS-001-BA; ComponentLink1Description: Datasheet; ComponentLink1URL: http://ww1.microchip.com/downloads/en/DeviceDoc/21419c.pdf; ComponentLink2Description: Packaging Specification; ComponentLink2URL: http://www.microchip.com/stellent/groups/techpub_sg/documents/packagingspec/en012702.pdf; ComponentLink3Description: Microchip.com Home; ComponentLink3URL: http://www.microchip.com/
footprint PDIP300-PA8 (DIP, 8-Leads, Row Spacing 7.62mm, Pitch 2.54mm, Body 9.5x6.6mm)
simulation model TC4429_I2D_B (SUBCKT)
pins: 1 VDD (power), 2 IN (in), 3 NC, 4 GND (power), 5 GND (power), 6 ~{OUT} (out), 7 ~{OUT} (out), 8 VDD (power)

## TC4429IJA
designator U?
6A High-Speed MOSFET Driver, Inverting, -25C to +85C Temperature; Published: 29-Jan-2009; LatestRevisionDate: 01-Mar-2010; LatestRevisionNote: Sch Layout changed.; DatasheetVersion: revC, Aug-2004; PackageVersion: revBB, Aug-2009; PackageReference: CERDIP300-JA8; Publisher: Altium Limited; PackageDescription: 8-Lead Ceramic Dual In-Line (JA) - 300mil Body [CERDIP]; Supplier 1: Digi-Key; Supplier Part Number 1: TC4429IJA-ND; ComponentLink1Description: Datasheet; ComponentLink1URL: http://ww1.microchip.com/downloads/en/DeviceDoc/21419c.pdf; ComponentLink2Description: Packaging Specification; ComponentLink2URL: http://www.microchip.com/stellent/groups/techpub_sg/documents/packagingspec/en012702.pdf; ComponentLink3Description: Microchip.com Home; ComponentLink3URL: http://www.microchip.com/
footprint CERDIP300-JA8 (DIP, 8-Leads, Row Spacing 7.62mm, Pitch 2.54mm, Body 9.8x6.7mm)
simulation model TC4429_I2D_B (SUBCKT)
pins: 1 VDD (power), 2 IN (in), 3 NC, 4 GND (power), 5 GND (power), 6 ~{OUT} (out), 7 ~{OUT} (out), 8 VDD (power)

## TC4429MJA
designator U?
6A High-Speed MOSFET Driver, Inverting, -55C to +125C Temperature; Published: 29-Jan-2009; LatestRevisionDate: 01-Mar-2010; LatestRevisionNote: Sch Layout changed.; DatasheetVersion: revC, Aug-2004; PackageVersion: revBB, Aug-2009; PackageReference: CERDIP300-JA8; Publisher: Altium Limited; PackageDescription: 8-Lead Ceramic Dual In-Line (JA) - 300mil Body [CERDIP]; Supplier 1: Digi-Key; Supplier Part Number 1: TC4429MJA-ND; ComponentLink1Description: Datasheet; ComponentLink1URL: http://ww1.microchip.com/downloads/en/DeviceDoc/21419c.pdf; ComponentLink2Description: Packaging Specification; ComponentLink2URL: http://www.microchip.com/stellent/groups/techpub_sg/documents/packagingspec/en012702.pdf; ComponentLink3Description: Microchip.com Home; ComponentLink3URL: http://www.microchip.com/
footprint CERDIP300-JA8 (DIP, 8-Leads, Row Spacing 7.62mm, Pitch 2.54mm, Body 9.8x6.7mm)
simulation model TC4429_I2D_B (SUBCKT)
pins: 1 VDD (power), 2 IN (in), 3 NC, 4 GND (power), 5 GND (power), 6 ~{OUT} (out), 7 ~{OUT} (out), 8 VDD (power)

## TC4429VAT
designator U?
6A High-Speed MOSFET Driver, Inverting, Extended Temperature; Published: 2-Dec-2009; LatestRevisionDate: 01-Mar-2010; LatestRevisionNote: Sch Layout changed.; DatasheetVersion: revC, Aug-2004; PackageVersion: revBB, Aug-2009; PackageReference: TO-220-AT5; Publisher: Altium Limited; PackageDescription: 5-Lead Plastic Transistor Outline (AT) [TO-220]; Supplier 1: Digi-Key; Supplier Part Number 1: TC4429VAT-ND; ComponentLink1Description: Datasheet; ComponentLink1URL: http://ww1.microchip.com/downloads/en/DeviceDoc/21419c.pdf; ComponentLink2Description: Packaging Specification; ComponentLink2URL: http://www.microchip.com/stellent/groups/techpub_sg/documents/packagingspec/en012702.pdf; ComponentLink3Description: Microchip.com Home; ComponentLink3URL: http://www.microchip.com/
footprint TO-220-AT5 (TO, Thru-Hole, Vertical, Heatsink Mounted; 5 In-Line Leads; Pitch 1.70 mm)
simulation model TC4429_I2D_B (SUBCKT)
pins: 1 IN (in), 2 GND (power), 3 VDD (power), 4 GND (power), 5 ~{OUT} (out)

## TC4429VMF
designator U?
6A High-Speed MOSFET Driver, Inverting, Extended Temperature; Published: 29-Jan-2009; LatestRevisionDate: 01-Mar-2010; LatestRevisionNote: Sch Layout changed.; DatasheetVersion: revC, Aug-2004; PackageVersion: revBB, Aug-2009; PackageReference: DFN-MF8; Publisher: Altium Limited; PackageDescription: 8-Lead Plastic Dual Flat, No Lead Package (MF) - 3x3x0.9mm Body [DFN]; Supplier 1: Digi-Key; Supplier Part Number 1: TC4429VMF-ND; ComponentLink1Description: Datasheet; ComponentLink1URL: http://ww1.microchip.com/downloads/en/DeviceDoc/21419c.pdf; ComponentLink2Description: Packaging Specification; ComponentLink2URL: http://www.microchip.com/stellent/groups/techpub_sg/documents/packagingspec/en012702.pdf; ComponentLink3Description: Microchip.com Home; ComponentLink3URL: http://www.microchip.com/
footprint DFN-MF8 (SON, 8-Leads, Body 3x3mm, Pitch 0.65mm, Microchip Recommended)
simulation model TC4429_I2D_B (SUBCKT)
part A pins: 1 VDD (power), 2 IN (in), 4 GND (power), 5 GND (power), 6 ~{OUT} (out), 7 ~{OUT} (out), 8 VDD (power)
part B pins: 3 NC, 9 Thermal Pad

## TC4429VMF713
designator U?
6A High-Speed MOSFET Driver, Inverting, Extended Temperature, Tape and Reel; Published: 29-Jan-2009; LatestRevisionDate: 01-Mar-2010; LatestRevisionNote: Sch Layout changed.; DatasheetVersion: revC, Aug-2004; PackageVersion: revBB, Aug-2009; PackageReference: DFN-MF8; Publisher: Altium Limited; PackageDescription: 8-Lead Plastic Dual Flat, No Lead Package (MF) - 3x3x0.9mm Body [DFN]; Supplier 1: Digi-Key; Supplier Part Number 1: TC4429VMF713-ND; ComponentLink1Description: Datasheet; ComponentLink1URL: http://ww1.microchip.com/downloads/en/DeviceDoc/21419c.pdf; ComponentLink2Description: Packaging Specification; ComponentLink2URL: http://www.microchip.com/stellent/groups/techpub_sg/documents/packagingspec/en012702.pdf; ComponentLink3Description: Microchip.com Home; ComponentLink3URL: http://www.microchip.com/
footprint DFN-MF8 (SON, 8-Leads, Body 3x3mm, Pitch 0.65mm, Microchip Recommended)
simulation model TC4429_I2D_B (SUBCKT)
part A pins: 1 VDD (power), 2 IN (in), 4 GND (power), 5 GND (power), 6 ~{OUT} (out), 7 ~{OUT} (out), 8 VDD (power)
part B pins: 3 NC, 9 Thermal Pad

## TC4429VOA
designator U?
6A High-Speed MOSFET Driver, Inverting, Extended Temperature; Published: 29-Jan-2009; LatestRevisionDate: 01-Mar-2010; LatestRevisionNote: Sch Layout changed.; DatasheetVersion: revC, Aug-2004; PackageVersion: revBB, Aug-2009; PackageReference: SOIC-OA8; Publisher: Altium Limited; PackageDescription: 8-Lead Plastic Small Outline (OA) - Narrow, 3.90mm Body [SOIC]; Supplier 1: Digi-Key; Supplier Part Number 1: TC4429VOA-ND; Code_IPC: SOIC127P600-8; ComponentLink1Description: Datasheet; ComponentLink1URL: http://ww1.microchip.com/downloads/en/DeviceDoc/21419c.pdf; ComponentLink2Description: Packaging Specification; ComponentLink2URL: http://www.microchip.com/stellent/groups/techpub_sg/documents/packagingspec/en012702.pdf; ComponentLink3Description: Microchip.com Home; ComponentLink3URL: http://www.microchip.com/
footprint SOIC-OA8_N (SOIC, 8-Leads, Body 4.9x3.9mm, Pitch 1.27mm, IPC Medium Density)
footprint SOIC-OA8_L (SOIC, 8-Leads, Body 4.9x3.9mm, Pitch 1.27mm, IPC High Density)
footprint SOIC-OA8_M (SOIC, 8-Leads, Body 4.9x3.9mm, Pitch 1.27mm, IPC Low Density)
simulation model TC4429_I2D_B (SUBCKT)
pins: 1 VDD (power), 2 IN (in), 3 NC, 4 GND (power), 5 GND (power), 6 ~{OUT} (out), 7 ~{OUT} (out), 8 VDD (power)

## TC4429VOA713
designator U?
6A High-Speed MOSFET Driver, Inverting, Extended Temperature, Tape and Reel; Published: 29-Jan-2009; LatestRevisionDate: 01-Mar-2010; LatestRevisionNote: Sch Layout changed.; DatasheetVersion: revC, Aug-2004; PackageVersion: revBB, Aug-2009; PackageReference: SOIC-OA8; Publisher: Altium Limited; PackageDescription: 8-Lead Plastic Small Outline (OA) - Narrow, 3.90mm Body [SOIC]; Supplier 1: Digi-Key; Supplier Part Number 1: TC4429VOA713-ND; Code_IPC: SOIC127P600-8; ComponentLink1Description: Datasheet; ComponentLink1URL: http://ww1.microchip.com/downloads/en/DeviceDoc/21419c.pdf; ComponentLink2Description: Packaging Specification; ComponentLink2URL: http://www.microchip.com/stellent/groups/techpub_sg/documents/packagingspec/en012702.pdf; ComponentLink3Description: Microchip.com Home; ComponentLink3URL: http://www.microchip.com/
footprint SOIC-OA8_N (SOIC, 8-Leads, Body 4.9x3.9mm, Pitch 1.27mm, IPC Medium Density)
footprint SOIC-OA8_L (SOIC, 8-Leads, Body 4.9x3.9mm, Pitch 1.27mm, IPC High Density)
footprint SOIC-OA8_M (SOIC, 8-Leads, Body 4.9x3.9mm, Pitch 1.27mm, IPC Low Density)
simulation model TC4429_I2D_B (SUBCKT)
pins: 1 VDD (power), 2 IN (in), 3 NC, 4 GND (power), 5 GND (power), 6 ~{OUT} (out), 7 ~{OUT} (out), 8 VDD (power)

## TC4429VPA
designator U?
6A High-Speed MOSFET Driver, Inverting, Extended Temperature; Published: 29-Jan-2009; LatestRevisionDate: 01-Mar-2010; LatestRevisionNote: Sch Layout changed.; DatasheetVersion: revC, Aug-2004; PackageVersion: revBB, Aug-2009; PackageReference: PDIP300-PA8; Publisher: Altium Limited; PackageDescription: 8-Lead Plastic Dual In-Line (PA) - 300 mil Body [PDIP]; Supplier 1: Digi-Key; Supplier Part Number 1: TC4429VPA-ND; Code_JEDEC: MS-001-BA; ComponentLink1Description: Datasheet; ComponentLink1URL: http://ww1.microchip.com/downloads/en/DeviceDoc/21419c.pdf; ComponentLink2Description: Packaging Specification; ComponentLink2URL: http://www.microchip.com/stellent/groups/techpub_sg/documents/packagingspec/en012702.pdf; ComponentLink3Description: Microchip.com Home; ComponentLink3URL: http://www.microchip.com/
footprint PDIP300-PA8 (DIP, 8-Leads, Row Spacing 7.62mm, Pitch 2.54mm, Body 9.5x6.6mm)
simulation model TC4429_I2D_B (SUBCKT)
pins: 1 VDD (power), 2 IN (in), 3 NC, 4 GND (power), 5 GND (power), 6 ~{OUT} (out), 7 ~{OUT} (out), 8 VDD (power)

## TC4431COA
designator U?
1.5A High-Speed 30V MOSFET Driver, Inverting, Commercial Temperature; Published: 29-Jan-2009; LatestRevisionDate: 01-Mar-2010; LatestRevisionNote: Sch Layout changed.; DatasheetVersion: revD, Dec-2007; PackageVersion: revBB, Aug-2009; PackageReference: SOIC-OA8; Publisher: Altium Limited; PackageDescription: 8-Lead Plastic Small Outline (OA) - Narrow, 3.90mm Body [SOIC]; Supplier 1: Digi-Key; Supplier Part Number 1: TC4431COA-ND; Supplier 2: Farnell; Supplier Part Number 2: 1627205; Code_IPC: SOIC127P600-8; ComponentLink1Description: Datasheet; ComponentLink1URL: http://ww1.microchip.com/downloads/en/DeviceDoc/21424d.pdf; ComponentLink2Description: Packaging Specification; ComponentLink2URL: http://www.microchip.com/stellent/groups/techpub_sg/documents/packagingspec/en012702.pdf; ComponentLink3Description: Microchip.com Home; ComponentLink3URL: http://www.microchip.com/
footprint SOIC-OA8_N (SOIC, 8-Leads, Body 4.9x3.9mm, Pitch 1.27mm, IPC Medium Density)
footprint SOIC-OA8_L (SOIC, 8-Leads, Body 4.9x3.9mm, Pitch 1.27mm, IPC High Density)
footprint SOIC-OA8_M (SOIC, 8-Leads, Body 4.9x3.9mm, Pitch 1.27mm, IPC Low Density)
simulation model TC4431_I2D_B (SUBCKT)
pins: 1 VDD (power), 2 IN (in), 3 ~{LOCK DIS}, 4 GND (power), 5 GND (power), 6 ~{OUT} (out), 7 ~{OUT} (out), 8 VDD (power)

## TC4431COA713
designator U?
1.5A High-Speed 30V MOSFET Driver, Inverting, Commercial Temperature, Tape and Reel; Published: 29-Jan-2009; LatestRevisionDate: 01-Mar-2010; LatestRevisionNote: Sch Layout changed.; DatasheetVersion: revD, Dec-2007; PackageVersion: revBB, Aug-2009; PackageReference: SOIC-OA8; Publisher: Altium Limited; PackageDescription: 8-Lead Plastic Small Outline (OA) - Narrow, 3.90mm Body [SOIC]; Supplier 1: Digi-Key; Supplier Part Number 1: TC4431COA713-ND; Code_IPC: SOIC127P600-8; ComponentLink1Description: Datasheet; ComponentLink1URL: http://ww1.microchip.com/downloads/en/DeviceDoc/21424d.pdf; ComponentLink2Description: Packaging Specification; ComponentLink2URL: http://www.microchip.com/stellent/groups/techpub_sg/documents/packagingspec/en012702.pdf; ComponentLink3Description: Microchip.com Home; ComponentLink3URL: http://www.microchip.com/
footprint SOIC-OA8_N (SOIC, 8-Leads, Body 4.9x3.9mm, Pitch 1.27mm, IPC Medium Density)
footprint SOIC-OA8_L (SOIC, 8-Leads, Body 4.9x3.9mm, Pitch 1.27mm, IPC High Density)
footprint SOIC-OA8_M (SOIC, 8-Leads, Body 4.9x3.9mm, Pitch 1.27mm, IPC Low Density)
simulation model TC4431_I2D_B (SUBCKT)
pins: 1 VDD (power), 2 IN (in), 3 ~{LOCK DIS}, 4 GND (power), 5 GND (power), 6 ~{OUT} (out), 7 ~{OUT} (out), 8 VDD (power)

## TC4431CPA
designator U?
1.5A High-Speed 30V MOSFET Driver, Inverting, Commercial Temperature; Published: 29-Jan-2009; LatestRevisionDate: 01-Mar-2010; LatestRevisionNote: Sch Layout changed.; DatasheetVersion: revD, Dec-2007; PackageVersion: revBB, Aug-2009; PackageReference: PDIP300-PA8; Publisher: Altium Limited; PackageDescription: 8-Lead Plastic Dual In-Line (PA) - 300 mil Body [PDIP]; Supplier 1: Digi-Key; Supplier Part Number 1: TC4431CPA-ND; Code_JEDEC: MS-001-BA; ComponentLink1Description: Datasheet; ComponentLink1URL: http://ww1.microchip.com/downloads/en/DeviceDoc/21424d.pdf; ComponentLink2Description: Packaging Specification; ComponentLink2URL: http://www.microchip.com/stellent/groups/techpub_sg/documents/packagingspec/en012702.pdf; ComponentLink3Description: Microchip.com Home; ComponentLink3URL: http://www.microchip.com/
footprint PDIP300-PA8 (DIP, 8-Leads, Row Spacing 7.62mm, Pitch 2.54mm, Body 9.5x6.6mm)
simulation model TC4431_I2D_B (SUBCKT)
pins: 1 VDD (power), 2 IN (in), 3 ~{LOCK DIS}, 4 GND (power), 5 GND (power), 6 ~{OUT} (out), 7 ~{OUT} (out), 8 VDD (power)

## TC4431EJA
designator U?
1.5A High-Speed 30V MOSFET Driver, Inverting, Industrial Temperature; ComponentAvailability: Unknown. Contact manufacturer to determine status.; Published: 29-Jan-2009; LatestRevisionDate: 01-Mar-2010; LatestRevisionNote: Sch Layout changed.; DatasheetVersion: revD, Dec-2007; PackageVersion: revBB, Aug-2009; PackageReference: CERDIP300-JA8; Publisher: Altium Limited; PackageDescription: 8-Lead Ceramic Dual In-Line (JA) - 300mil Body [CERDIP]; Supplier 1: Digi-Key; Supplier Part Number 1: TC4431EJA-ND; ComponentLink1Description: Datasheet; ComponentLink1URL: http://ww1.microchip.com/downloads/en/DeviceDoc/21424d.pdf; ComponentLink2Description: Packaging Specification; ComponentLink2URL: http://www.microchip.com/stellent/groups/techpub_sg/documents/packagingspec/en012702.pdf; ComponentLink3Description: Microchip.com Home; ComponentLink3URL: http://www.microchip.com/
footprint CERDIP300-JA8 (DIP, 8-Leads, Row Spacing 7.62mm, Pitch 2.54mm, Body 9.8x6.7mm)
simulation model TC4431_I2D_B (SUBCKT)
pins: 1 VDD (power), 2 IN (in), 3 ~{LOCK DIS}, 4 GND (power), 5 GND (power), 6 ~{OUT} (out), 7 ~{OUT} (out), 8 VDD (power)